# Altium schematic symbol library SCH - MCU - SI LABS - SI LABS EFM32GG12B810F1024IM64 64-PIN QFN 9X9.SchLib: 1 symbol
Pins are listed as number, name and electrical type; pins without a type are passive.

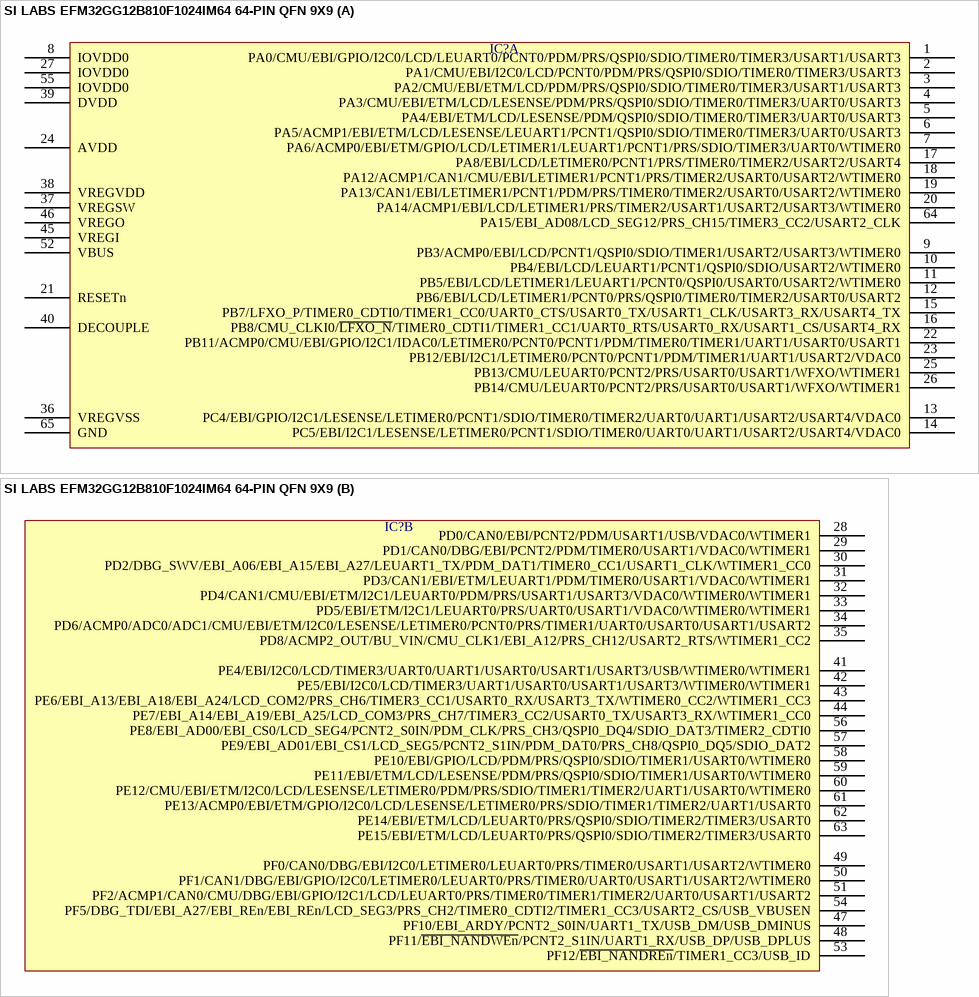
[diagram p0: symbol SI LABS EFM32GG12B810F1024IM64 64-PIN QFN 9X9]

## SI LABS EFM32GG12B810F1024IM64 64-PIN QFN 9X9
designator IC?  (value not drawn)
part A pins: 1 PA0/CMU/EBI/GPIO/I2C0/LCD/LEUART0/PCNT0/PDM/PRS/QSPI0/SDIO/TIMER0/TIMER3/USART1/USART3, 2 PA1/CMU/EBI/I2C0/LCD/PCNT0/PDM/PRS/QSPI0/SDIO/TIMER0/TIMER3/USART3, 3 PA2/CMU/EBI/ETM/LCD/PDM/PRS/QSPI0/SDIO/TIMER0/TIMER3/USART1/USART3, 4 PA3/CMU/EBI/ETM/LCD/LESENSE/PDM/PRS/QSPI0/SDIO/TIMER0/TIMER3/UART0/USART3, 5 PA4/EBI/ETM/LCD/LESENSE/PDM/QSPI0/SDIO/TIMER0/TIMER3/UART0/USART3, 6 PA5/ACMP1/EBI/ETM/LCD/LESENSE/LEUART1/PCNT1/QSPI0/SDIO/TIMER0/TIMER3/UART0/USART3, 7 PA6/ACMP0/EBI/ETM/GPIO/LCD/LETIMER1/LEUART1/PCNT1/PRS/SDIO/TIMER3/UART0/WTIMER0, 8 IOVDD0, 9 PB3/ACMP0/EBI/LCD/PCNT1/QSPI0/SDIO/TIMER1/USART2/USART3/WTIMER0, 10 PB4/EBI/LCD/LEUART1/PCNT1/QSPI0/SDIO/USART2/WTIMER0, 11 PB5/EBI/LCD/LETIMER1/LEUART1/PCNT0/QSPI0/USART0/USART2/WTIMER0, 12 PB6/EBI/LCD/LETIMER1/PCNT0/PRS/QSPI0/TIMER0/TIMER2/USART0/USART2, 13 PC4/EBI/GPIO/I2C1/LESENSE/LETIMER0/PCNT1/SDIO/TIMER0/TIMER2/UART0/UART1/USART2/USART4/VDAC0, 14 PC5/EBI/I2C1/LESENSE/LETIMER0/PCNT1/SDIO/TIMER0/UART0/UART1/USART2/USART4/VDAC0, 15 PB7/LFXO_P/TIMER0_CDTI0/TIMER1_CC0/UART0_CTS/USART0_TX/USART1_CLK/USART3_RX/USART4_TX, 16 PB8/CMU_CLKI0/~{LFXO_N}/TIMER0_CDTI1/TIMER1_CC1/UART0_RTS/USART0_RX/USART1_CS/USART4_RX, 17 PA8/EBI/LCD/LETIMER0/PCNT1/PRS/TIMER0/TIMER2/USART2/USART4, 18 PA12/ACMP1/CAN1/CMU/EBI/LETIMER1/PCNT1/PRS/TIMER2/USART0/USART2/WTIMER0, 19 PA13/CAN1/EBI/LETIMER1/PCNT1/PDM/PRS/TIMER0/TIMER2/USART0/USART2/WTIMER0, 20 PA14/ACMP1/EBI/LCD/LETIMER1/PRS/TIMER2/USART1/USART2/USART3/WTIMER0, 21 RESETn, 22 PB11/ACMP0/CMU/EBI/GPIO/I2C1/IDAC0/LETIMER0/PCNT0/PCNT1/PDM/TIMER0/TIMER1/UART1/USART0/USART1, 23 PB12/EBI/I2C1/LETIMER0/PCNT0/PCNT1/PDM/TIMER1/UART1/USART2/VDAC0, 24 AVDD, 25 PB13/CMU/LEUART0/PCNT2/PRS/USART0/USART1/WFXO/WTIMER1, 26 PB14/CMU/LEUART0/PCNT2/PRS/USART0/USART1/WFXO/WTIMER1, 27 IOVDD0, 36 VREGVSS, 37 VREGSW, 38 VREGVDD, 39 DVDD, 40 DECOUPLE, 45 VREGI, 46 VREGO, 52 VBUS, 55 IOVDD0, 64 PA15/EBI_AD08/LCD_SEG12/PRS_CH15/TIMER3_CC2/USART2_CLK, 65 GND
part B pins: 28 PD0/CAN0/EBI/PCNT2/PDM/USART1/USB/VDAC0/WTIMER1, 29 PD1/CAN0/DBG/EBI/PCNT2/PDM/TIMER0/USART1/VDAC0/WTIMER1, 30 PD2/DBG_SWV/EBI_A06/EBI_A15/EBI_A27/LEUART1_TX/PDM_DAT1/TIMER0_CC1/USART1_CLK/WTIMER1_CC0, 31 PD3/CAN1/EBI/ETM/LEUART1/PDM/TIMER0/USART1/VDAC0/WTIMER1, 32 PD4/CAN1/CMU/EBI/ETM/I2C1/LEUART0/PDM/PRS/USART1/USART3/VDAC0/WTIMER0/WTIMER1, 33 PD5/EBI/ETM/I2C1/LEUART0/PRS/UART0/USART1/VDAC0/WTIMER0/WTIMER1, 34 PD6/ACMP0/ADC0/ADC1/CMU/EBI/ETM/I2C0/LESENSE/LETIMER0/PCNT0/PRS/TIMER1/UART0/USART0/USART1/USART2, 35 PD8/ACMP2_OUT/BU_VIN/CMU_CLK1/EBI_A12/PRS_CH12/USART2_RTS/WTIMER1_CC2, 41 PE4/EBI/I2C0/LCD/TIMER3/UART0/UART1/USART0/USART1/USART3/USB/WTIMER0/WTIMER1, 42 PE5/EBI/I2C0/LCD/TIMER3/UART1/USART0/USART1/USART3/WTIMER0/WTIMER1, 43 PE6/EBI_A13/EBI_A18/EBI_A24/LCD_COM2/PRS_CH6/TIMER3_CC1/USART0_RX/USART3_TX/WTIMER0_CC2/WTIMER1_CC3, 44 PE7/EBI_A14/EBI_A19/EBI_A25/LCD_COM3/PRS_CH7/TIMER3_CC2/USART0_TX/USART3_RX/WTIMER1_CC0, 47 PF10/EBI_ARDY/PCNT2_S0IN/UART1_TX/USB_DM/USB_DMINUS, 48 PF11/~{EBI_NANDWEn}/PCNT2_S1IN/UART1_RX/USB_DP/USB_DPLUS, 49 PF0/CAN0/DBG/EBI/I2C0/LETIMER0/LEUART0/PRS/TIMER0/USART1/USART2/WTIMER0, 50 PF1/CAN1/DBG/EBI/GPIO/I2C0/LETIMER0/LEUART0/PRS/TIMER0/UART0/USART1/USART2/WTIMER0, 51 PF2/ACMP1/CAN0/CMU/DBG/EBI/GPIO/I2C1/LCD/LEUART0/PRS/TIMER0/TIMER1/TIMER2/UART0/USART1/USART2, 53 PF12/~{EBI_NANDREn}/TIMER1_CC3/USB_ID, 54 PF5/DBG_TDI/EBI_A27/EBI_REn/EBI_REn/LCD_SEG3/PRS_CH2/TIMER0_CDTI2/TIMER1_CC3/USART2_CS/USB_VBUSEN, 56 PE8/EBI_AD00/EBI_CS0/LCD_SEG4/PCNT2_S0IN/PDM_CLK/PRS_CH3/QSPI0_DQ4/SDIO_DAT3/TIMER2_CDTI0, 57 PE9/EBI_AD01/EBI_CS1/LCD_SEG5/PCNT2_S1IN/PDM_DAT0/PRS_CH8/QSPI0_DQ5/SDIO_DAT2, 58 PE10/EBI/GPIO/LCD/PDM/PRS/QSPI0/SDIO/TIMER1/USART0/WTIMER0, 59 PE11/EBI/ETM/LCD/LESENSE/PDM/PRS/QSPI0/SDIO/TIMER1/USART0/WTIMER0, 60 PE12/CMU/EBI/ETM/I2C0/LCD/LESENSE/LETIMER0/PDM/PRS/SDIO/TIMER1/TIMER2/UART1/USART0/WTIMER0, 61 PE13/ACMP0/EBI/ETM/GPIO/I2C0/LCD/LESENSE/LETIMER0/PRS/SDIO/TIMER1/TIMER2/UART1/USART0, 62 PE14/EBI/ETM/LCD/LEUART0/PRS/QSPI0/SDIO/TIMER2/TIMER3/USART0, 63 PE15/EBI/ETM/LCD/LEUART0/PRS/QSPI0/SDIO/TIMER2/TIMER3/USART0